# EAGLE library part HEADER_POS12_? (library con-molex-Micro-Fit-3.0)
Molex - Micro-Fit 3.0 Series connector, 3.00mm (0.118") pitch header, 12 positions.
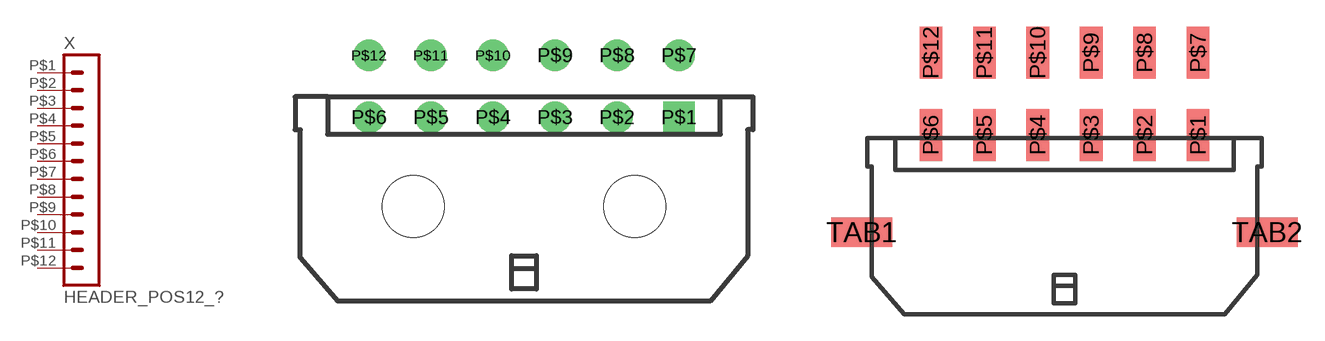
[diagram p6: symbol with the pads of 43045-1200; footprints 43045-1200, 43045-1209]

Designator prefix X

## HEADER_POS12_43045-1200  [43045-1200]
P$1  1  pas
P$2  2  pas
P$3  3  pas
P$4  4  pas
P$5  5  pas
P$6  6  pas
P$7  7  pas
P$8  8  pas
P$9  9  pas
P$10  10  pas
P$11  11  pas
P$12  12  pas

## HEADER_POS12_43045-1209  [43045-1209]
Pads as for 43045-1200

## HEADER_POS12_43045-1206  [43045-1206]
Pads as for 43045-1200

## HEADER_POS12_43045-1212  [43045-1212]
Pads as for 43045-1200

## HEADER_POS12_43045-1215  [43045-1215]
Pads as for 43045-1200

## HEADER_POS12_43045-1218  [43045-1218]
Pads as for 43045-1200

## HEADER_POS12_44914-1201  [44914-1201]
Pads as for 43045-1200

## HEADER_POS12_43650-1215  [43650-1215]
Pads as for 43045-1200

## HEADER_POS12_43650-1221  [43650-1221]
Pads as for 43045-1200

## HEADER_POS12_43650-1224  [43650-1224]
Pads as for 43045-1200

## HEADER_POS12_43650-1200  [43650-1200]
Pads as for 43045-1200

## HEADER_POS12_43650-1209  [43650-1209]
P$1  2  pas
P$2  1  pas
P$3  3  pas
P$4  4  pas
P$5  5  pas
P$6  6  pas
P$7  7  pas
P$8  8  pas
P$9  9  pas
P$10  10  pas
P$11  11  pas
P$12  12  pas

## HEADER_POS12_43650-1212  [43650-1212]
Pads as for 43045-1200

## HEADER_POS12_44769-1201  [44769-1201]
Pads as for 43045-1200

## HEADER_POS12_44432-1201  [44432-1201]
Pads as for 43045-1200

## HEADER_POS12_44428-1201  [44428-1201]
Pads as for 43045-1200

## HEADER_POS12_44764-1201  [44764-1201]
Pads as for 43045-1200

## Footprint 43045-1200 (pad centres in mm)
Molex Micro-Fit 3.0 - Header Shrouded, Thru hole, Right Angle; P/N: SD-43045-1200, SD-43045-1201, SD-43045-1202 http://www.molex.com/pdm_docs/sd/430450200_sd.pdf
drill 1.02 square: P$1 7.5,4.32
drill 1.02 round: P$2 4.5,4.32; P$3 1.5,4.32; P$4 -1.5,4.32; P$5 -4.5,4.32; P$6 -7.5,4.32; P$7 7.5,7.32; P$8 4.5,7.32; P$9 1.5,7.32; P$10 -1.5,7.32; P$11 -4.5,7.32; P$12 -7.5,7.32
hole 3 at 5.35,0
hole 3 at -5.35,0

## Footprint 43045-1209 (pad centres in mm)
Molex Micro-Fit 3.0 - Header Shrouded, Surface mount, Right Angle, Solderable tabs; P/N: SD-43045-1209, SD-43045-1210, SD-43045-1211 http://www.molex.com/pdm_docs/sd/430450209_sd.pdf
smd 1.27 x 2.92: P$1 7.5,5.47; P$2 4.5,5.47; P$3 1.5,5.47; P$4 -1.5,5.47; P$5 -4.5,5.47; P$6 -7.5,5.47; P$7 7.5,10.1; P$8 4.5,10.1; P$9 1.5,10.1; P$10 -1.5,10.1; P$11 -4.5,10.1; P$12 -7.5,10.1
smd 3.43 x 1.65: TAB1 -11.38,0; TAB2 11.38,0

## Footprint 43045-1206 (pad centres in mm)
Molex Micro-Fit 3.0 - Header Shrouded, Surface mount, Right Angle, Solderable Retention clips; P/N: SD-43045-1206, SD-43045-1207, SD-43045-1208 http://www.molex.com/pdm_docs/sd/430450206_sd.pdf
smd 1.27 x 2.92: P$1 7.5,5.47; P$2 4.5,5.47; P$3 1.5,5.47; P$4 -1.5,5.47; P$5 -4.5,5.47; P$6 -7.5,5.47; P$7 7.5,10.1; P$8 4.5,10.1; P$9 1.5,10.1; P$10 -1.5,10.1; P$11 -4.5,10.1; P$12 -7.5,10.1
hole 2.41 at -9.65,0
hole 2.41 at 9.65,0

## Footprint 43045-1212 (pad centres in mm)
Molex Micro-Fit 3.0 - Header Shrouded, Thru hole, Vertical, with Pegs; P/N: SD-43045-1212, SD-43045-1213, SD-43045-1214 http://www.molex.com/pdm_docs/sd/430450212_sd.pdf
drill 1.02 square: P$1 7.5,0
drill 1.02 round: P$2 4.5,0; P$3 1.5,0; P$4 -1.5,0; P$5 -4.5,0; P$6 -7.5,0; P$7 7.5,3; P$8 4.5,3; P$9 1.5,3; P$10 -1.5,3; P$11 -4.5,3; P$12 -7.5,3
hole 1.02 at 10.5,3.94
hole 1.02 at -10.5,3.94

## Footprint 43045-1215 (pad centres in mm)
Molex Micro-Fit 3.0 - Header Shrouded, Surface mount, Vertical, with Solderable Retention Clips; P/N: SD-43045-1215, SD-43045-1216, SD-43045-1217 http://www.molex.com/pdm_docs/sd/430450215_sd.pdf
smd 1.27 x 2.54: P$1 7.5,-4.7; P$2 4.5,-4.7; P$3 1.5,-4.7; P$4 -1.5,-4.7; P$5 -4.5,-4.7; P$6 -7.5,-4.7; P$7 7.5,4.7; P$8 4.5,4.7; P$9 1.5,4.7; P$10 -1.5,4.7; P$11 -4.5,4.7; P$12 -7.5,4.7
hole 2.41 at -9.65,0
hole 2.41 at 9.65,0

## Footprint 43045-1218 (pad centres in mm)
Molex Micro-Fit 3.0 - Header Shrouded, Surface mount, Vertical, with Solder Tabs; P/N: SD-43045-1218, SD-43045-1219, SD-43045-1220 http://www.molex.com/pdm_docs/sd/430450218_sd.pdf
smd 3.43 x 1.65: CLIP1 -11.38,0; CLIP2 11.38,0
smd 1.27 x 2.54: P$1 7.5,-4.7; P$2 4.5,-4.7; P$3 1.5,-4.7; P$4 -1.5,-4.7; P$5 -4.5,-4.7; P$6 -7.5,-4.7; P$7 7.5,4.7; P$8 4.5,4.7; P$9 1.5,4.7; P$10 -1.5,4.7; P$11 -4.5,4.7; P$12 -7.5,4.7

## Footprint 44914-1201 (pad centres in mm)
Molex Micro-Fit 3.0 - Header Shrouded, Thru hole, Vertical, Press-fit, with Pegs; P/N: SD-44914-1201, SD-44914-1202, SD-44914-1203 http://www.molex.com/pdm_docs/sd/449140201_sd.pdf
drill 1.09 square: P$1 7.5,0
drill 1.09 round: P$2 4.5,0; P$3 1.5,0; P$4 -1.5,0; P$5 -4.5,0; P$6 -7.5,0; P$7 7.5,3; P$8 4.5,3; P$9 1.5,3; P$10 -1.5,3; P$11 -4.5,3; P$12 -7.5,3
hole 1.02 at 10.5,3.94
hole 1.02 at -10.5,3.94

## Footprint 43650-1215 (pad centres in mm)
Molex Micro-Fit 3.0 - Header Shrouded, Thru hole, Vertical, with Pegs; P/N: SD-43650-1215, SD-43650-1216, SD-43650-1217 http://www.molex.com/pdm_docs/sd/436500215_sd.pdf
drill 1.02 square: P$1 16.5,0
drill 1.02 round: P$2 13.5,0; P$3 10.5,0; P$4 7.5,0; P$5 4.5,0; P$6 1.5,0; P$7 -1.5,0; P$8 -4.5,0; P$9 -7.5,0; P$10 -10.5,0; P$11 -13.5,0; P$12 -16.5,0
hole 1.27 at 19.5,-1.96
hole 1.27 at -19.5,-1.96

## Footprint 43650-1221 (pad centres in mm)
Molex Micro-Fit 3.0 - Header Shrouded, Thru hole, Vertical, with Solderable Retention Clips; P/N: SD-43650-1221, SD-43650-1222, SD-43650-1223 http://www.molex.com/pdm_docs/sd/436500221_sd.pdf
smd 1.27 x 2.54: P$1 16.5,3.43; P$2 13.5,3.43; P$3 10.5,3.43; P$4 7.5,3.43; P$5 4.5,3.43; P$6 1.5,3.43; P$7 -1.5,3.43; P$8 -4.5,3.43; P$9 -7.5,3.43; P$10 -10.5,3.43; P$11 -13.5,3.43; P$12 -16.5,3.43
hole 2.41 at 18.65,0
hole 2.41 at -18.65,0

## Footprint 43650-1224 (pad centres in mm)
Molex Micro-Fit 3.0 - Header Shrouded, Thru hole, Vertical, with Solder Tabs; P/N: SD-43650-1224, SD-43650-1225, SD-43650-1226 http://www.molex.com/pdm_docs/sd/436500224_sd.pdf
smd 1.27 x 2.54: P$1 16.5,3.43; P$2 13.5,3.43; P$3 10.5,3.43; P$4 7.5,3.43; P$5 4.5,3.43; P$6 1.5,3.43; P$7 -1.5,3.43; P$8 -4.5,3.43; P$9 -7.5,3.43; P$10 -10.5,3.43; P$11 -13.5,3.43; P$12 -16.5,3.43
smd 3.43 x 1.65: TAB1 20.39,0; TAB2 -20.39,0

## Footprint 43650-1200 (pad centres in mm)
Molex Micro-Fit 3.0 - Header Shrouded, Thru hole, Right Angle, with Pegs; P/N: SD-43650-1200, SD-43650-1201, SD-43650-1202 http://www.molex.com/pdm_docs/sd/436500200_sd.pdf
drill 1.02 square: P$1 16.5,4.32
drill 1.02 round: P$2 13.5,4.32; P$3 10.5,4.32; P$4 7.5,4.32; P$5 4.5,4.32; P$6 1.5,4.32; P$7 -1.5,4.32; P$8 -4.5,4.32; P$9 -7.5,4.32; P$10 -10.5,4.32; P$11 -13.5,4.32; P$12 -16.5,4.32
hole 3 at 14.35,0
hole 3 at -14.35,0

## Footprint 43650-1209 (pad centres in mm)
Molex Micro-Fit 3.0 - Header Shrouded, Thru hole, Right Angle, with Solderable Retention Clips; P/N: SD-43650-1209, SD-43650-1210, SD-43650-1211 http://www.molex.com/pdm_docs/sd/436500209_sd.pdf
smd 1.27 x 2.92: P$1 16.5,5.48; P$2 13.5,5.48; P$3 10.5,5.48; P$4 7.5,5.48; P$5 4.5,5.48; P$6 1.5,5.48; P$7 -1.5,5.48; P$8 -4.5,5.48; P$9 -7.5,5.48; P$10 -10.5,5.48; P$11 -13.5,5.48; P$12 -16.5,5.48
hole 2.41 at 18.65,0
hole 2.41 at -18.65,0

## Footprint 43650-1212 (pad centres in mm)
Molex Micro-Fit 3.0 - Header Shrouded, Surface mount, Right Angle, with Solderable tabs; P/N: SD-43650-1212, SD-43650-1213, SD-43650-1214 http://www.molex.com/pdm_docs/sd/436500212_sd.pdf
smd 1.27 x 2.92: P$1 16.5,5.48; P$2 13.5,5.48; P$3 10.5,5.48; P$4 7.5,5.48; P$5 4.5,5.48; P$6 1.5,5.48; P$7 -1.5,5.48; P$8 -4.5,5.48; P$9 -7.5,5.48; P$10 -10.5,5.48; P$11 -13.5,5.48; P$12 -16.5,5.48
smd 3.43 x 1.65: TAB1 20.38,0; TAB2 -20.38,0

## Footprint 44769-1201 (pad centres in mm)
Molex Micro-Fit 3.0 - Board-to-Board BMI (Blind Mate Interface), Receptacle Vertical, Thru hole; P/N: SD-44769-1201, SD-44769-1202, SD-44769-1203 http://www.molex.com/pdm_docs/sd/447690401_sd.pdf
drill 1.02 square: P$1 -7.5,0
drill 1.02 round: P$2 -4.5,0; P$3 -1.5,0; P$4 1.5,0; P$5 4.5,0; P$6 7.5,0; P$7 -7.5,3; P$8 -4.5,3; P$9 -1.5,3; P$10 1.5,3; P$11 4.5,3; P$12 7.5,3
hole 2.36 at 10.5,3
hole 2.36 at -10.5,3

## Footprint 44432-1201 (pad centres in mm)
Molex Micro-Fit 3.0 - Board-to-Board BMI (Blind Mate Interface), Header Vertical, Thru hole, with Pegs; P/N: SD-44432-1201, SD-44432-1202, SD-44432-1203 http://www.molex.com/pdm_docs/sd/444320401_sd.pdf
drill 1.02 square: P$1 7.5,-3
drill 1.02 round: P$2 4.5,-3; P$3 1.5,-3; P$4 -1.5,-3; P$5 -4.5,-3; P$6 -7.5,-3; P$7 7.5,0; P$8 4.5,0; P$9 1.5,0; P$10 -1.5,0; P$11 -4.5,0; P$12 -7.5,0
hole 1.57 at -12,1.45
hole 1.57 at 12,1.45

## Footprint 44428-1201 (pad centres in mm)
Molex Micro-Fit 3.0 - Board-to-Board BMI (Blind Mate Interface), Header Right Angle, Thru hole, with Pegs; P/N: SD-44428-1201, SD-44428-1202, SD-44428-1203 http://www.molex.com/pdm_docs/sd/444280401_sd.pdf
drill 1.02 square: P$1 7.5,0
drill 1.02 round: P$2 4.5,0; P$3 1.5,0; P$4 -1.5,0; P$5 -4.5,0; P$6 -7.5,0; P$7 7.5,3; P$8 4.5,3; P$9 1.5,3; P$10 -1.5,3; P$11 -4.5,3; P$12 -7.5,3
hole 3 at 5.34,-8.53
hole 3 at -5.34,-8.53

## Footprint 44764-1201 (pad centres in mm)
Molex Micro-Fit 3.0 - Board-to-Board BMI (Blind Mate Interface), Receptacle, Right Angle, Thru hole; P/N: SD-44764-1201, SD-44764-1202, SD-44764-1203 http://www.molex.com/pdm_docs/sd/447640401_sd.pdf
drill 1.02 square: P$1 -7.5,0
drill 1.02 round: P$2 -4.5,0; P$3 -1.5,0; P$4 1.5,0; P$5 4.5,0; P$6 7.5,0; P$7 -7.5,3; P$8 -4.5,3; P$9 -1.5,3; P$10 1.5,3; P$11 4.5,3; P$12 7.5,3
hole 2.36 at -6,-3.05
hole 2.36 at 6,-3.05